# Altium footprint library adafruit.PCBLIB: 643 footprints (part 18 of 41)
Each footprint in its own frame and in the unit in brackets; x right, y up, seen from the top. Pads: shape width x height; smd on the part's side, far side on the other; paste and mask are expansions set on the pad; w line width, h text height; cw(c..) or ccw(c..) is an arc to the next point about the centre after c.
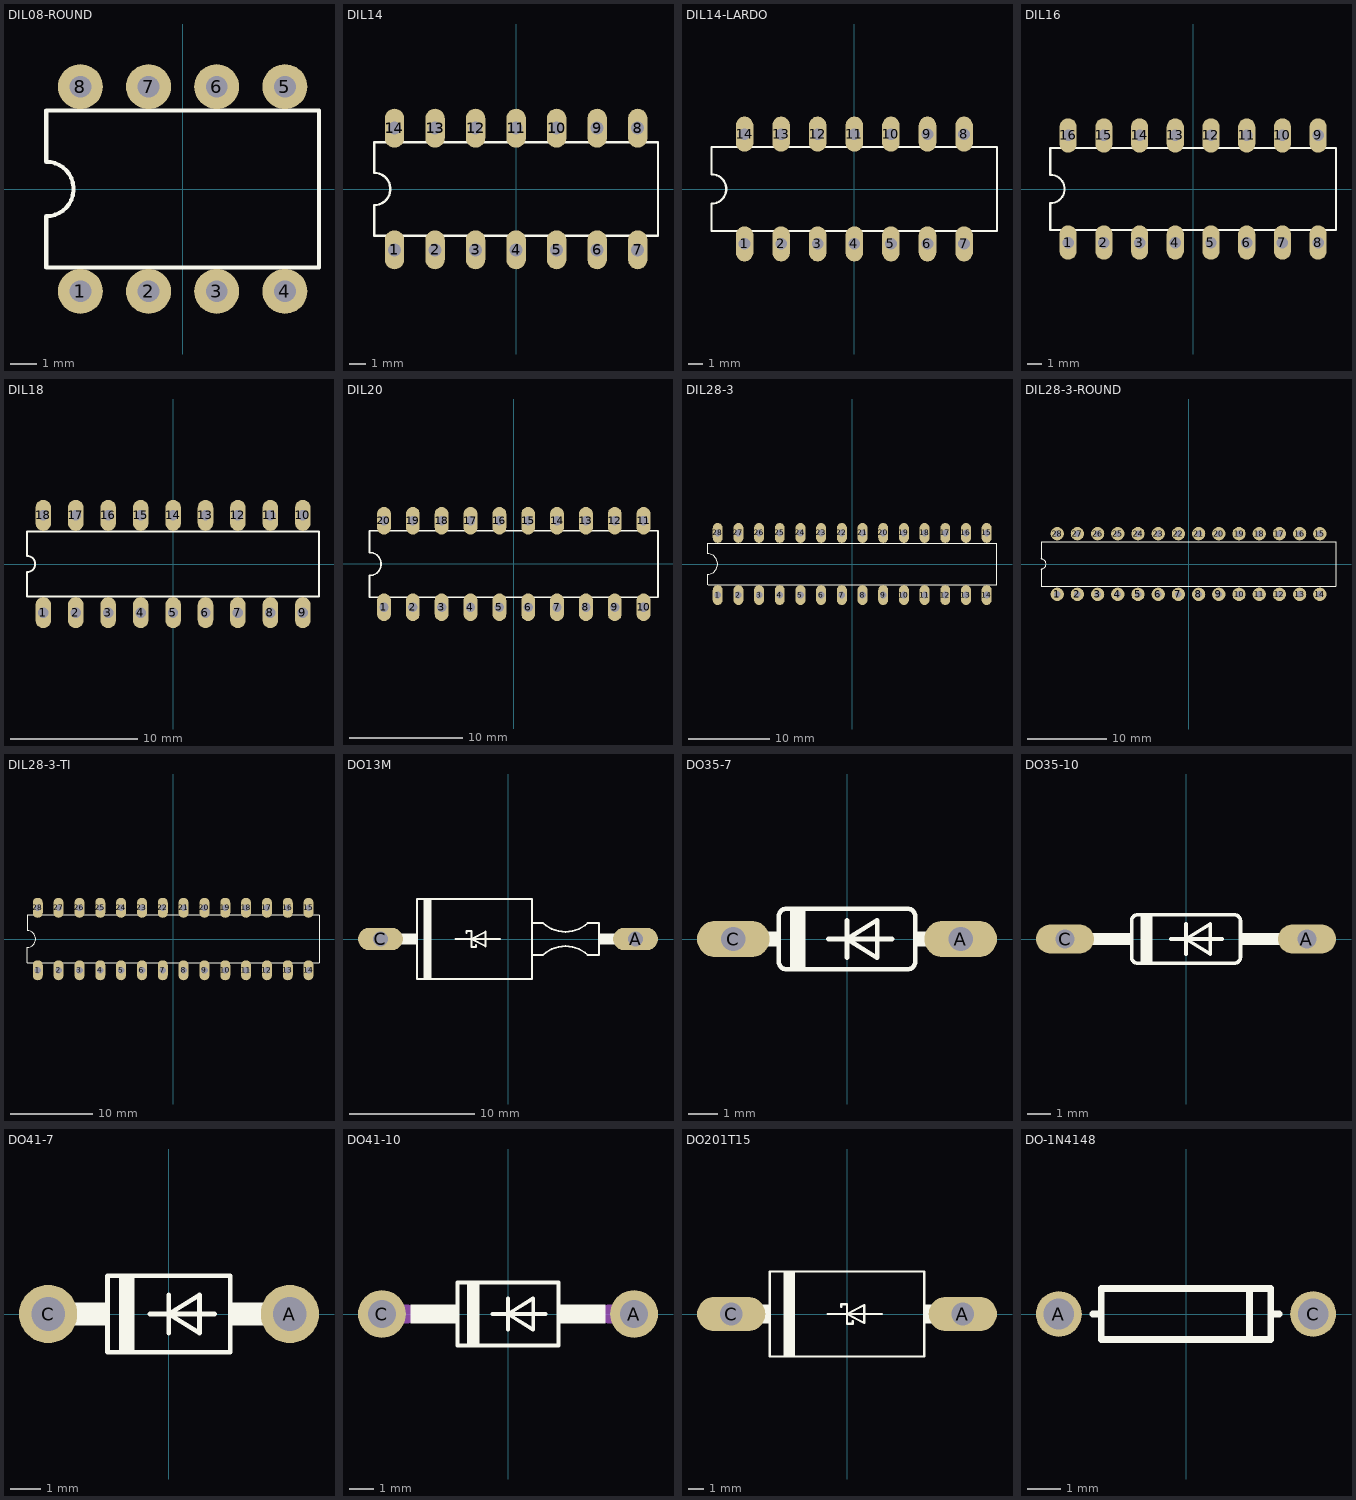
[diagram p17: the footprints below, top view; thin cyan lines are the x and y axes]

## DIL08-ROUND [mil]
pads (8):
  round 66 hole 32: 1(-150,-150) 2(-50,-150) 3(50,-150) 4(150,-150) 5(150,150) 6(50,150) 7(-50,150) 8(-150,150)
Top Overlay:
  lines w6: -200,-115 200,-115 200,115 -200,115 -200,40 cw(c-200,0) -200,-40 -200,-115

## DIL14 [mil]
pads (14):
  oval 48x96 hole 32: 1(-300,-150) 2(-200,-150) 3(-100,-150) 4(0,-150) 5(100,-150) 6(200,-150) 7(300,-150) 8(300,150) 9(200,150) 10(100,150) 11(0,150) 12(-100,150) 13(-200,150) 14(-300,150)
Top Overlay:
  lines w6: -350,-115 350,-115 350,115 -350,115 -350,40 cw(c-350,0) -350,-40 -350,-115

## DIL14-LARDO [mil]
pads (14):
  oval 48x96 hole 32: 1(-300,-150) 2(-200,-150) 3(-100,-150) 4(0,-150) 5(100,-150) 6(200,-150) 7(300,-150) 8(300,150) 9(200,150) 10(100,150) 11(0,150) 12(-100,150) 13(-200,150) 14(-300,150)
Top Overlay:
  lines w6: -390,-115 390,-115 390,115 -390,115 -390,40 cw(c-390,0) -390,-40 -390,-115

## DIL16 [mil]
pads (16):
  oval 48x96 hole 32: 1(-350,-150) 2(-250,-150) 3(-150,-150) 4(-50,-150) 5(50,-150) 6(150,-150) 7(250,-150) 8(350,-150) 9(350,150) 10(250,150) 11(150,150) 12(50,150) 13(-50,150) 14(-150,150) 15(-250,150) 16(-350,150)
Top Overlay:
  lines w6: -400,-115 400,-115 400,115 -400,115 -400,40 cw(c-400,0) -400,-40 -400,-115

## DIL18 [mil]
pads (18):
  oval 48x96 hole 32: 1(-400,-150) 2(-300,-150) 3(-200,-150) 4(-100,-150) 5(0,-150) 6(100,-150) 7(200,-150) 8(300,-150) 9(400,-150) 10(400,150) 11(300,150) 12(200,150) 13(100,150) 14(0,150) 15(-100,150) 16(-200,150) 17(-300,150) 18(-400,150)
Top Overlay:
  lines w6: -450,-100 -450,-25 ccw(c-450,0) -450,25 -450,100 450,100 450,-100 -450,-100

## DIL20 [mil]
pads (20):
  oval 48x96 hole 32: 1(-450,-150) 2(-350,-150) 3(-250,-150) 4(-150,-150) 5(-50,-150) 6(50,-150) 7(150,-150) 8(250,-150) 9(350,-150) 10(450,-150) 11(450,150) 12(350,150) 13(250,150) 14(150,150) 15(50,150) 16(-50,150) 17(-150,150) 18(-250,150) 19(-350,150) 20(-450,150)
Top Overlay:
  lines w6: -500,-115 500,-115 500,115 -500,115 -500,40 cw(c-500,0) -500,-40 -500,-115

## DIL28-3 [mil]
pads (28):
  oval 48x96 hole 32: 1(-650,-150) 2(-550,-150) 3(-450,-150) 4(-350,-150) 5(-250,-150) 6(-150,-150) 7(-50,-150) 8(50,-150) 9(150,-150) 10(250,-150) 11(350,-150) 12(450,-150) 13(550,-150) 14(650,-150) 15(650,150) 16(550,150) 17(450,150) 18(350,150) 19(250,150) 20(150,150) 21(50,150) 22(-50,150) 23(-150,150) 24(-250,150) 25(-350,150) 26(-450,150) 27(-550,150) 28(-650,150)
Top Overlay:
  lines w6: -700,-100 -700,-50 ccw(c-700,0) -700,50 -700,100 700,100 700,-100 -695,-100

## DIL28-3-ROUND [mil]
pads (28):
  round 66 hole 32: 1(-650,-150) 2(-550,-150) 3(-450,-150) 4(-350,-150) 5(-250,-150) 6(-150,-150) 7(-50,-150) 8(50,-150) 9(150,-150) 10(250,-150) 11(350,-150) 12(450,-150) 13(550,-150) 14(650,-150) 15(650,150) 16(550,150) 17(450,150) 18(350,150) 19(250,150) 20(150,150) 21(50,150) 22(-50,150) 23(-150,150) 24(-250,150) 25(-350,150) 26(-450,150) 27(-550,150) 28(-650,150)
Top Overlay:
  lines w6: -730,-110 -730,-25 ccw(c-730,0) -730,25 -730,110 730,110 730,-110 -730,-110

## DIL28-3-TI [mil]
pads (28):
  oval 48x96 hole 32: 1(-650,-150) 2(-550,-150) 3(-450,-150) 4(-350,-150) 5(-250,-150) 6(-150,-150) 7(-50,-150) 8(50,-150) 9(150,-150) 10(250,-150) 11(350,-150) 12(450,-150) 13(550,-150) 14(650,-150) 15(650,150) 16(550,150) 17(450,150) 18(350,150) 19(250,150) 20(150,150) 21(50,150) 22(-50,150) 23(-150,150) 24(-250,150) 25(-350,150) 26(-450,150) 27(-550,150) 28(-650,150)
Top Overlay:
  lines w6: -700,-115 700,-115 700,115 -700,115 -700,40 cw(c-700,0) -700,-40 -700,-115

## DO13M [mil]
pads (2):
  oval 141x70.5 hole 47: A(400,0) C(-400,0)
Top Overlay:
  rectangle: 285,-17 343,17
  rectangle: -343,-17 -285,17
  rectangle: -265,-125 -240,125
  lines w6: -165,0 -115,0 ; -130,18 -130,25 -115,25 -115,0 ; -100,-18 -100,-25 -115,-25 -115,0 ; -25,0 -115,0 ; -115,0 -70,23 -70,-23 -115,0 ; 75,-50 75,-125 -285,-125 -285,125 75,125 75,50 ; 75,-50 75,50 ; 75,-50 110,-50 cw(c180,-125) 250,-50 285,-50 285,50 250,50 cw(c180,125) 110,50 75,50
Courtyard Bottom:
  lines w36: -400,0 -340,0 ; 340,0 400,0

## DO35-7 [mil]
pads (2):
  oval 96x48 hole 32: A(150,0) C(-150,0)
Top Overlay:
  rectangle: -75,-40 -55,40
  rectangle: 90,-10 115,10
  rectangle: -115,-10 -90,10
  lines w6: -25,0 0,0 ; 0,-25 0,0 ; 0,25 0,0 ; 60,0 0,0 ; 0,0 40,-25 40,25 0,0 ; -90,-30 ccw(c-80,-30) -80,-40 80,-40 ccw(c80,-30) 90,-30 90,30 ccw(c80,30) 80,40 -80,40 ccw(c-80,30) -90,30 -90,-30
Courtyard Bottom:
  lines w20: -150,0 -115,0 ; 115,0 150,0

## DO35-10 [mil]
pads (2):
  oval 96x48 hole 32: A(200,0) C(-200,0)
Top Overlay:
  rectangle: -75,-40 -55,40
  rectangle: 90,-10 165,10
  rectangle: -165,-10 -90,10
  lines w6: -25,0 0,0 ; 0,-25 0,0 ; 0,25 0,0 ; 60,0 0,0 ; 0,0 40,-25 40,25 0,0 ; -90,-30 ccw(c-80,-30) -80,-40 80,-40 ccw(c80,-30) 90,-30 90,30 ccw(c80,30) 80,40 -80,40 ccw(c-80,30) -90,30 -90,-30
Courtyard Bottom:
  lines w20: -200,0 -165,0 ; 165,0 200,0

## DO41-7 [mil]
pads (2):
  round 76 hole 44: A(158,0) C(-157.48,0)
Top Overlay:
  rectangle: -65,-50 -45,50
  rectangle: 80,-15 155,15
  rectangle: -155,-15 -80,15
  lines w6: -25,0 0,0 ; 0,-25 0,0 ; 0,25 0,0 ; 60,0 0,0 ; 0,0 40,-25 40,25 0,0 ; -80,-50 80,-50 80,50 -80,50 -80,-50

## DO41-10 [mil]
pads (2):
  round 76 hole 44: A(200,0) C(-200,0)
Top Overlay:
  rectangle: -65,-50 -45,50
  rectangle: 80,-15 155,15
  rectangle: -155,-15 -80,15
  lines w6: -25,0 0,0 ; 0,-25 0,0 ; 0,25 0,0 ; 60,0 0,0 ; 0,0 40,-25 40,25 0,0 ; -80,-50 80,-50 80,50 -80,50 -80,-50
Courtyard Bottom:
  lines w30: -200,0 -160,0 ; 160,0 200,0

## DO201T15 [mil]
pads (2):
  oval 177x88.5 hole 59: A(300,0) C(-300,0)
Top Overlay:
  rectangle: -165,-110 -135,110
  rectangle: -235,-25 -200,25
  rectangle: 200,-25 235,25
  lines w6: -50,0 0,0 ; -15,18 -15,25 0,25 0,0 ; 15,-18 15,-25 0,-25 0,0 ; 90,0 0,0 ; 0,0 45,23 45,-23 0,0 ; -200,-110 -200,110 200,110 200,-110 -200,-110
Courtyard Bottom:
  lines w50: -300,0 -245,0 ; 245,0 300,0

## DO-1N4148 [mil]
pads (2):
  round 54 hole 36: A(-150,0) C(150,0)
Top Overlay:
  lines w8: -110,0 -100,0 ; 75,-25 75,25 ; 110,0 100,0 ; -100,0 -100,-30 100,-30 100,0 ; -100,0 -100,30 100,30 100,0